# EAGLE library part MCP6L04 (library custom)
Op-Amp Quad Rail-to-Rail 1MHz 0.6V/us 2pA 1mV 85uA 1.8-6V
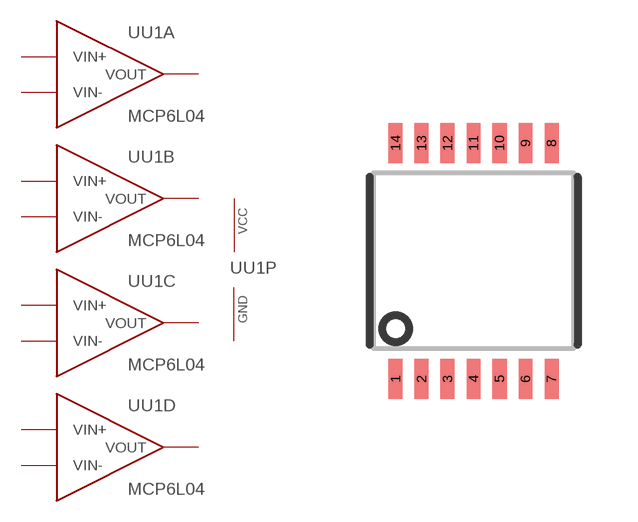
[diagram p110: symbol with the pads of 14-TSSOP; footprint 14-TSSOP]

Designator prefix U; gates U1A=OP-AMP U1B=OP-AMP U1C=OP-AMP U1D=OP-AMP U1P=PWRN

## MCP6L04  [14-TSSOP]
1  U1A:VOUT
2  U1A:VIN-
3  U1A:VIN+
4  U1P:VCC  pwr
5  U1B:VIN+
6  U1B:VIN-
7  U1B:VOUT
8  U1C:VOUT
9  U1C:VIN-
10  U1C:VIN+
11  U1P:GND  pwr
12  U1D:VIN+
13  U1D:VIN-
14  U1D:VOUT

## Footprint 14-TSSOP (pad centres in mm)
smd 0.35 x 1: 1 -1.95,-2.95; 2 -1.3,-2.95; 3 -0.65,-2.95; 4 0,-2.95; 5 0.65,-2.95; 6 1.3,-2.95; 7 1.95,-2.95; 8 1.95,2.95; 9 1.3,2.95; 10 0.65,2.95; 11 0,2.95; 12 -0.65,2.95; 13 -1.3,2.95; 14 -1.95,2.95